# Altium schematic symbol library symbols.SchLib: 5 symbols
Pins are listed as number, name and electrical type; pins without a type are passive.

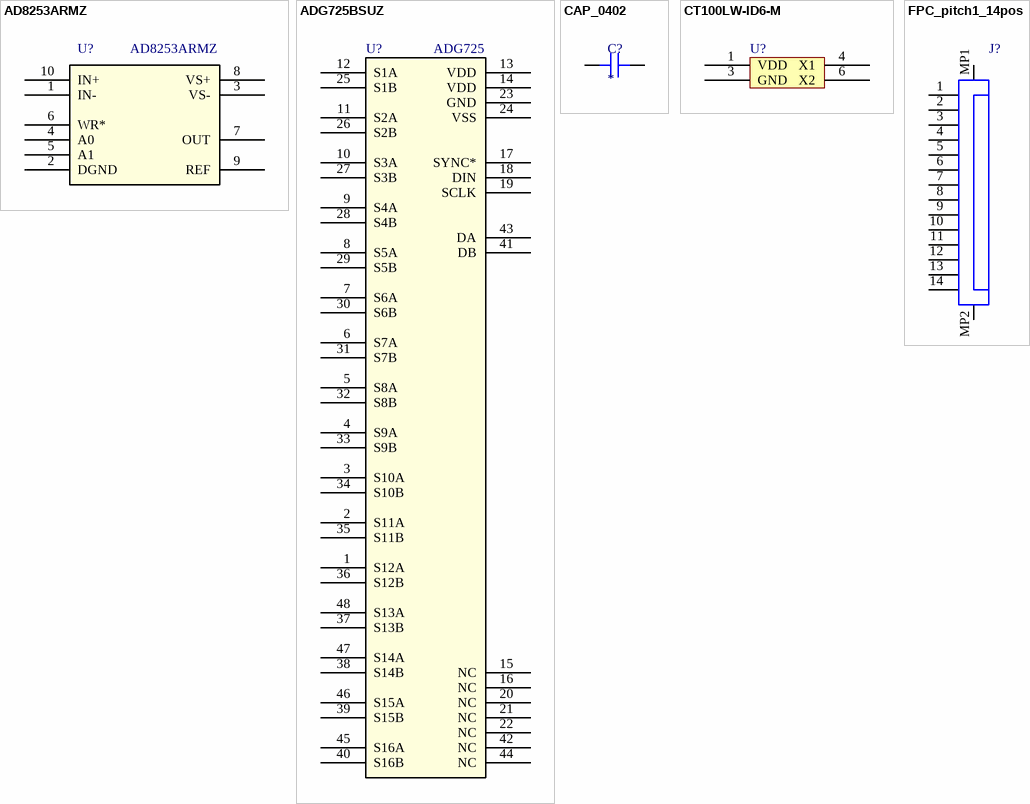
[diagram p0: symbols AD8253ARMZ to FPC_pitch1_14pos]

## AD8253ARMZ
designator U?
10 MHz, G = 1, 10, 100, 1000 iCMOS® Programmable Gain Instrumentation Amplifier; Mfr_Name: Analog Devices Inc; Copyright: Copyright (C) 2023 Ultra Librarian. All rights reserved.; Manufacturer_Part_Number: AD8253ARMZ; RefDes: RefDes; Type: DEV
footprint RM_10_ADI
pins: 1 IN-, 2 DGND, 3 VS- (power), 4 A0, 5 A1, 6 WR*, 7 OUT, 8 VS+ (power), 9 REF, 10 IN+

## ADG725BSUZ
designator U?, comment ADG725
Differential 16-Channel, Serially Controlled 3.5 Ω 1.8 V to 5.5 V, ±2.5 V, Analog Multiplexer; Mfr_Name: Analog Devices Inc; Manufacturer_Part_Number: ADG725BSUZ; RefDes: RefDes; Type: DEV
footprint SU_48_ADI
pins: 1 S12A, 2 S11A, 3 S10A, 4 S9A, 5 S8A, 6 S7A, 7 S6A, 8 S5A, 9 S4A, 10 S3A, 11 S2A, 12 S1A, 13 VDD (power), 14 VDD (power), 15 NC, 16 NC, 17 SYNC*, 18 DIN, 19 SCLK, 20 NC, 21 NC, 22 NC, 23 GND, 24 VSS (power), 25 S1B, 26 S2B, 27 S3B, 28 S4B, 29 S5B, 30 S6B, 31 S7B, 32 S8B, 33 S9B, 34 S10B, 35 S11B, 36 S12B, 37 S13B, 38 S14B, 39 S15B, 40 S16B, 41 DB, 42 NC, 43 DA, 44 NC, 45 S16A, 46 S15A, 47 S14A, 48 S13A

## CAP_0402
designator C?
Capacitor SMD 0402; Voltage: 50V; Capacitance: *
footprint CAP_0402 (Chip Capacitor, 2-Leads, Body 1.02x0.51mm, IPC Medium Density)
pins: 1, 2

## CT100LW-ID6-M
designator U?, comment CT100  (value not drawn)
TMR Sensor, Linear, -40 to 85deg C; Manufacturer: Crocus Technology; Manufacturer Part Number: CT100LW-ID6; RoHS: Yes
footprint SON_6_CT100 (SON, 6-Leads, Body 1.50x1.50mm, Pitch 0.50mm, Thermal Pad 1.20x0.49mm, IPC Medium Density)
pins: 1 VDD (power), 3 GND, 4 X1, 6 X2

## FPC_pitch1_14pos
designator J?
14 Position 1 mm FFC & FPC Connectors
footprint FPC_pitch1_14pos
pins: 1, 2, 3, 4, 5, 6, 7, 8, 9, 10, 11, 12, 13, 14, MP1, MP2